# Altium footprint library MSP IOboard.PcbLib: 14 footprints
Each footprint in its own frame and in the unit in brackets; x right, y up, seen from the top. Pads: shape width x height; smd on the part's side, far side on the other; paste and mask are expansions set on the pad; w line width, h text height; cw(c..) or ccw(c..) is an arc to the next point about the centre after c.
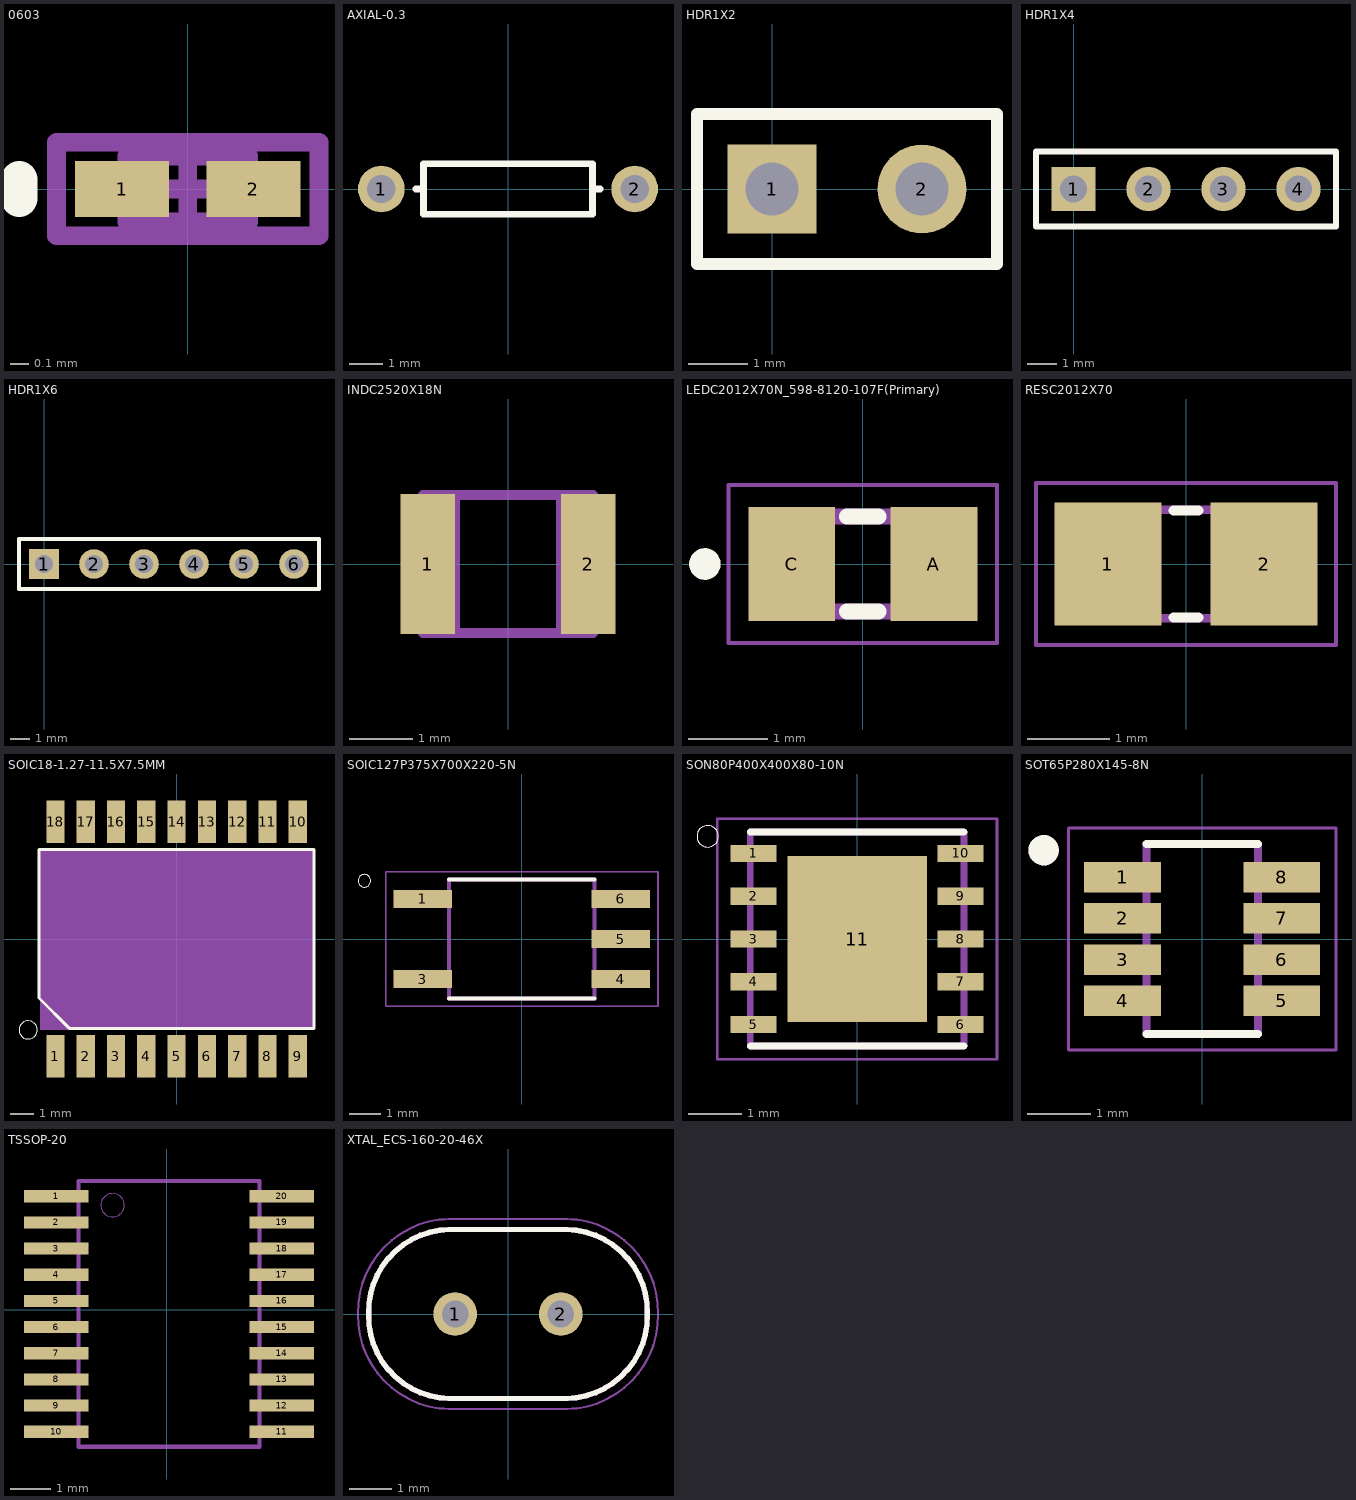
[diagram p0: the footprints below, top view; thin cyan lines are the x and y axes]

## 0603 [mm] "Chip Inductor, Body 0.6x0.3mm, IPC High Density"
height 0.55
pads (2):
  rect 0.5x0.3 smd: 1(-0.35,0) 2(0.35,0)
Top Overlay:
  lines w0.2: -0.9,-0.05 -0.9,0.05
Mechanical 13:
  lines w0.1: -0.325,-0.175 0.325,-0.175 0.325,0.175 -0.325,0.175 -0.325,-0.175
Mechanical 15:
  lines w0.1: -0.175,0 0.175,0 ; 0,-0.175 0,0.175 ; -0.7,-0.25 0.7,-0.25 0.7,0.25 -0.7,0.25 -0.7,-0.25
3D body: height 0.55, standoff 0, extent -0.325,-0.175 0.325,0.175

## AXIAL-0.3 [mm] "Axial Device, Thru-Hole; 2 Leads; 0.3 in Pin Spacing"
height 1.524
pads (2):
  round 1.4 hole 0.85: 1(-3.81,0) 2(3.81,0)
Top Overlay:
  lines w0.2: -2.769,0 -2.54,0 ; 2.769,0 2.54,0 ; 2.54,0 2.54,0.762 -2.54,0.762 -2.54,-0.762 2.54,-0.762 2.54,0

## HDR1X2 [mm] "Connector; Header; 2 Position"
pads (2):
  rect 1.5x1.5 hole 0.9: 1(0,0)
  round 1.5 hole 0.9: 2(2.54,0)
Top Overlay:
  lines w0.2: -1.27,-1.27 3.81,-1.27 3.81,1.27 -1.27,1.27 -1.27,-1.27

## HDR1X4 [mm] "Connector; Header; 4 Position"
pads (4):
  rect 1.5x1.5 hole 0.9: 1(0,0)
  round 1.5 hole 0.9: 2(2.54,0) 3(5.08,0) 4(7.62,0)
Top Overlay:
  lines w0.2: -1.27,-1.27 -1.27,1.27 8.89,1.27 8.89,-1.27 -1.27,-1.27

## HDR1X6 [mm] "Connector; Header; 6 Position"
pads (6):
  rect 1.5x1.5 hole 0.9: 1(0,0)
  round 1.5 hole 0.9: 2(2.54,0) 3(5.08,0) 4(7.62,0) 5(10.16,0) 6(12.7,0)
Top Overlay:
  lines w0.2: -1.27,-1.27 -1.27,1.27 13.97,1.27 13.97,-1.27 -1.27,-1.27

## INDC2520X18N [mil]
pads (2):
  rect 34x87 smd: 1(-50,0) 2(50,0)
Mechanical 4:
  lines w6: -53,-43 -33,-43 ; -53,-43 -53,43 ; -53,-43 -33,-43 ; -53,-43 -53,43 ; -53,43 -33,43 ; -53,43 -33,43 ; -33,-43 -33,43 ; -33,-43 33,-43 ; -33,-43 -33,43 ; -33,-43 33,-43 ; -33,43 33,43 ; -33,43 33,43 ; 33,-43 33,43 ; 33,-43 53,-43 ; 33,-43 33,43 ; 33,-43 53,-43 ; 33,43 53,43 ; 33,43 53,43 ; 53,-43 53,43 ; 53,-43 53,43

## LEDC2012X70N_598-8120-107F(Primary) [mm]
pads (2):
  rect 1.1x1.45 smd: A(0.9,0) C(-0.9,0)
Top Overlay:
  circle w0.2: c-2,0 r0.1
  lines w0.2: -0.2,-0.6 0.2,-0.6 ; -0.2,0.6 0.2,0.6
Mechanical 4:
  region: -1,0.6 -0.5,0.6 -0.5,-0.6 -1,-0.6
  region: 0.5,0.6 1,0.6 1,-0.6 0.5,-0.6
  region: -1,0.6 -0.5,0.6 -0.5,-0.6 -1,-0.6
  region: 0.5,0.6 1,0.6 1,-0.6 0.5,-0.6
  lines w0.2: -1,-0.6 1,-0.6 ; -1,-0.6 -1,0.6 ; -1,-0.6 1,-0.6 ; -1,-0.6 -1,0.6 ; -1,0.6 1,0.6 ; -1,0.6 1,0.6 ; 1,-0.6 1,0.6 ; 1,-0.6 1,0.6
Mechanical 16:
  lines w0.05: -1.7,-1 1.7,-1 1.7,1 -1.7,1 -1.7,-1

## RESC2012X70 [mm]
pads (2):
  rect 1.3x1.5 smd: 1(-0.95,0) 2(0.95,0)
Top Overlay:
  lines w0.127: -0.15,-0.65 0.15,-0.65 ; -0.15,0.65 0.15,0.65
Mechanical 4:
  region: -1.092,0.726 -0.342,0.726 -0.342,-0.724 -1.092,-0.724
  region: 0.356,0.726 1.106,0.726 1.106,-0.724 0.356,-0.724
  region: -1.092,0.726 -0.342,0.726 -0.342,-0.724 -1.092,-0.724
  region: 0.356,0.726 1.106,0.726 1.106,-0.724 0.356,-0.724
  lines w0.102: -0.381,0.66 0.381,0.66 -0.381,0.66 ; -0.356,-0.66 0.381,-0.66 -0.356,-0.66
Mechanical 16:
  lines w0.051: -1.823,-0.983 1.823,-0.983 1.823,0.983 -1.823,0.983 -1.823,-0.983

## SOIC18-1.27-11.5X7.5MM [mil]
pads (18):
  rect 30x70 smd: 1(-200,-193.5) 2(-150,-193.5) 3(-100,-193.5) 4(-50,-193.5) 5(0,-193.5) 6(50,-193.5) 7(100,-193.5) 8(150,-193.5) 9(200,-193.5) 10(200,193.5) 11(150,193.5) 12(100,193.5) 13(50,193.5) 14(0,193.5) 15(-50,193.5) 16(-100,193.5) 17(-150,193.5) 18(-200,193.5)
Top Overlay:
  circle w0: c-245,-150 r15
  lines w5: -227,-97.5 -177,-147.5 227,-147.5 227,147.5 -227,147.5 -227,-97.5
Mechanical 4:
  region: -225.17,150 225,150 225,-150.12 -225.17,-150.12

## SOIC127P375X700X220-5N [mm]
pads (5):
  rect 1.85x0.57 smd: 1(-3.13,1.27) 3(-3.13,-1.27) 4(3.13,-1.27) 5(3.13,0) 6(3.13,1.27)
Top Overlay:
  circle w0: c-4.98,1.84 r0.2
  lines w0.127: -2.3,-1.875 2.3,-1.875 ; -2.3,1.875 2.3,1.875
Mechanical 1:
  circle w0: c-4.98,1.84 r0.2
  lines w0.127: -2.3,-1.875 2.3,-1.875 2.3,1.875 -2.3,1.875 -2.3,-1.875
Mechanical 4:
  lines w0.05: -4.305,-2.125 4.305,-2.125 4.305,2.125 -4.305,2.125 -4.305,-2.125

## SON80P400X400X80-10N [mm]
pads (11):
  rect 0.86x0.32 smd: 1(-1.935,1.6) 2(-1.935,0.8) 3(-1.935,0) 4(-1.935,-0.8) 5(-1.935,-1.6) 6(1.935,-1.6) 7(1.935,-0.8) 8(1.935,0) 9(1.935,0.8) 10(1.935,1.6)
  rect 2.61x3.1 smd: 11(0,0)
Top Overlay:
  circle w0: c-2.795,1.92 r0.2
  lines w0.127: -2,-2 2,-2 ; -2,2 2,2
Top Paste:
  region: -0.727,0.775 0.653,0.775 0.653,-0.862 -0.727,-0.862
Mechanical 4:
  circle w0: c-2.795,1.92 r0.2
  circle w0: c-2.795,1.92 r0.2
  lines w0.127: -2,-2 -2,2 ; -2,-2 2,-2 ; -2,-2 -2,2 ; -2,-2 2,-2 ; -2,2 2,2 ; -2,2 2,2 ; 2,-2 2,2 ; 2,-2 2,2
Mechanical 16:
  lines w0.05: -2.615,-2.25 -2.615,2.25 2.615,2.25 2.615,-2.25 -2.615,-2.25

## SOT65P280X145-8N [mm]
pads (8):
  rect 1.21x0.48 smd: 1(-1.255,0.975) 2(-1.255,0.325) 3(-1.255,-0.325) 4(-1.255,-0.975) 5(1.255,-0.975) 6(1.255,-0.325) 7(1.255,0.325) 8(1.255,0.975)
Top Overlay:
  circle w0.24: c-2.5,1.4 r0.12
  lines w0.127: -0.88,-1.5 0.88,-1.5 ; -0.88,1.5 0.88,1.5
Mechanical 1:
  circle w0.24: c-2.5,1.4 r0.12
  lines w0.127: -0.88,-1.5 0.88,-1.5 0.88,1.5 -0.88,1.5 -0.88,-1.5
Mechanical 4:
  lines w0.05: -2.11,-1.75 2.11,-1.75 2.11,1.75 -2.11,1.75 -2.11,-1.75

## TSSOP-20 [mm]
pads (20):
  rect 1.6x0.3 smd: 1(-2.748,2.822) 2(-2.748,2.172) 3(-2.748,1.522) 4(-2.748,0.872) 5(-2.748,0.222) 6(-2.748,-0.428) 7(-2.748,-1.078) 8(-2.748,-1.728) 9(-2.748,-2.378) 10(-2.748,-3.028) 11(2.852,-3.028) 12(2.852,-2.378) 13(2.852,-1.728) 14(2.852,-1.078) 15(2.852,-0.428) 16(2.852,0.222) 17(2.852,0.872) 18(2.852,1.522) 19(2.852,2.172) 20(2.852,2.822)
Mechanical 1:
  circle w0: c-1.35,2.6 r0.292
  lines w0.1: -2.2,-3.4 -2.2,3.2 2.3,3.2 2.3,-3.4 -2.2,-3.4

## XTAL_ECS-160-20-46X [mm]
pads (2):
  round 1.03 hole 0.63: 1(-1.25,0) 2(1.25,0)
Top Overlay:
  lines w0.127: -3.3,-0.016 ccw(c-1.35,-0.05) -1.384,-2 ; -3.3,0.016 cw(c-1.35,0.05) -1.384,2 ; -1.4,-2 1.4,-2 ; -1.4,2 1.4,2 ; 1.384,-2 ccw(c1.35,-0.05) 3.3,-0.016 ; 1.384,2 cw(c1.35,0.05) 3.3,0.016
Mechanical 4:
  lines w0.127: -3.3,-0.016 ccw(c-1.35,-0.05) -1.384,-2 cw(c-1.35,-0.05) -3.3,-0.016 ; -3.3,0.016 cw(c-1.35,0.05) -1.384,2 ccw(c-1.35,0.05) -3.3,0.016 ; -1.4,-2 1.4,-2 -1.4,-2 ; -1.4,2 1.4,2 -1.4,2 ; 1.384,-2 ccw(c1.35,-0.05) 3.3,-0.016 cw(c1.35,-0.05) 1.384,-2 ; 1.384,2 cw(c1.35,0.05) 3.3,0.016 ccw(c1.35,0.05) 1.384,2
Mechanical 16:
  lines w0.05: -3.55,-0.012 ccw(c-1.35,-0.05) -1.388,-2.25 ; -3.55,0.012 cw(c-1.35,0.05) -1.388,2.25 ; -1.4,-2.25 1.4,-2.25 ; -1.4,2.25 1.4,2.25 ; 1.388,-2.25 ccw(c1.35,-0.05) 3.55,-0.012 ; 1.388,2.25 cw(c1.35,0.05) 3.55,0.012